# EAGLE library part LT3508 (library PowerProducts)
LT-Spice library generated with : ltspice.ulp from: E:/Programme/LTC/LTspiceIV/lib/sym/PowerProducts/LT3510*.asy at 05.10.2012 12:29:37
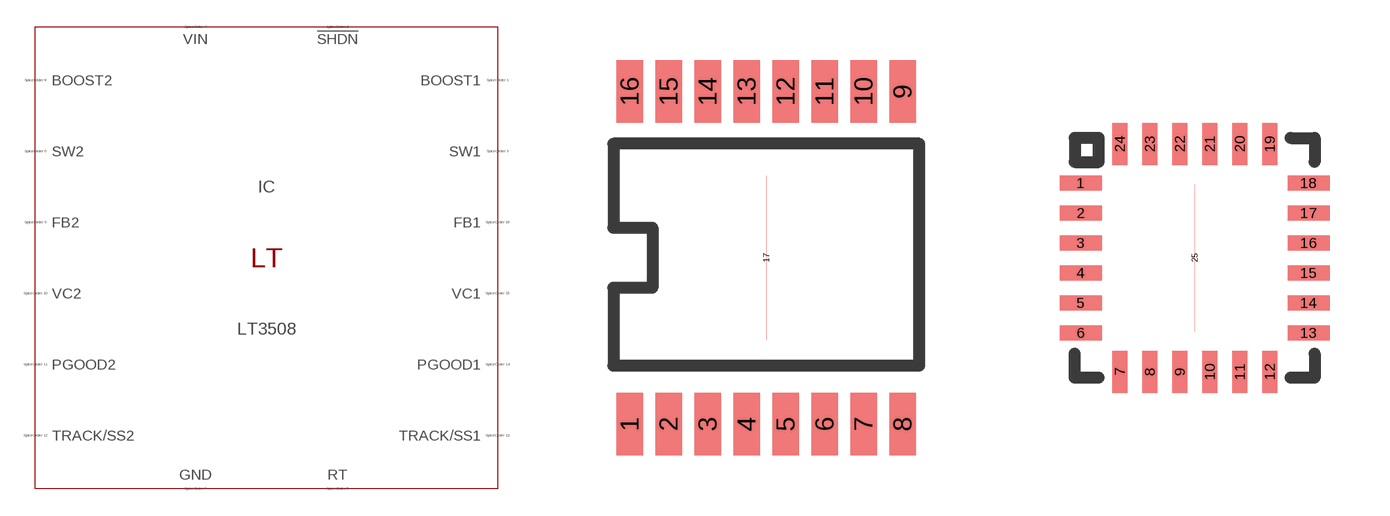
[diagram p68: symbol with the pads of TSSOP16BA(FE); footprints TSSOP16BA(FE), QFN24(UF)]

Designator prefix IC

## LT3508 (SPICEMODEL: LT3508.sub; SPICEPREFIX: X; VALUE2: LT3508)  [TSSOP16BA(FE)]
1  TRACK/SS1  pas
2  BOOST1  pas
3  SW1  pas
4  VIN  pas
5  VIN  pas
6  SW2  pas
7  BOOST2  pas
8  TRACK/SS2  pas
9  FB2  pas
10  VC2  pas
11  PGOOD2  pas
12  !SHDN  pas
13  RT  pas
14  PGOOD1  pas
15  VC1  pas
16  FB1  pas
17  GND  pas

## LT3508UF (SPICEMODEL: LT3508.sub; SPICEPREFIX: X; VALUE2: LT3508)  [QFN24(UF)]
1  FB1  pas
2  TRACK/SS1  pas
3  GND  pas
4  GND  pas
5  GND  pas
6  GND  pas
7  BOOST1  pas
8  SW1  pas
9  VIN  pas
10  VIN  pas
11  SW2  pas
12  BOOST2  pas
13  GND  pas
14  GND  pas
15  GND  pas
16  GND  pas
17  TRACK/SS2  pas
18  FB2  pas
19  VC2  pas
20  PGOOD2  pas
21  !SHDN  pas
22  RT  pas
23  PGOOD1  pas
24  VC1  pas
25  GND  pas

## Footprint TSSOP16BA(FE) (pad centres in mm)
Package generated from: TSSOP16BA(FE).asc (!PADS-POWERPCB-V5.0-BASIC! DESIGN DATABASE ASCII FILE 1.0) with :import-pads-powerpcb-v5.ulp Version 1.0.1 at 04.10.2012 14:11:39
smd 0.66 x 1.575: 1 -3.413,-4.162; 2 -2.438,-4.162; 3 -1.462,-4.162; 4 -0.487,-4.162; 5 0.487,-4.162; 6 1.462,-4.162; 7 2.438,-4.162; 8 3.413,-4.162; 9 3.413,4.162; 10 2.438,4.162; 11 1.462,4.162; 12 0.487,4.162; 13 -0.487,4.162; 14 -1.462,4.162; 15 -2.438,4.162; 16 -3.413,4.162
smd 0 x 4.11: 17 0,0

## Footprint QFN24(UF) (pad centres in mm)
Package generated from: QFN24(UF).asc (!PADS-POWERPCB-V5.0-BASIC! DESIGN DATABASE ASCII FILE 1.0) with :import-pads-powerpcb-v5.ulp Version 1.0.1 at 04.10.2012 14:11:24
smd 1.05 x 0.375: 1 -2.85,1.875; 2 -2.85,1.125; 3 -2.85,0.375; 4 -2.85,-0.375; 5 -2.85,-1.125; 6 -2.85,-1.875; 13 2.85,-1.875; 14 2.85,-1.125; 15 2.85,-0.375; 16 2.85,0.375; 17 2.85,1.125; 18 2.85,1.875
smd 0.375 x 1.05: 7 -1.875,-2.85; 8 -1.125,-2.85; 9 -0.375,-2.85; 10 0.375,-2.85; 11 1.125,-2.85; 12 1.875,-2.85; 19 1.875,2.85; 20 1.125,2.85; 21 0.375,2.85; 22 -0.375,2.85; 23 -1.125,2.85; 24 -1.875,2.85
smd 0 x 3.675: 25 0,0